# Altium integrated library STM32F767ZIT6.IntLib: 1 symbol
Pins are listed as number, name and electrical type; pins without a type are passive.

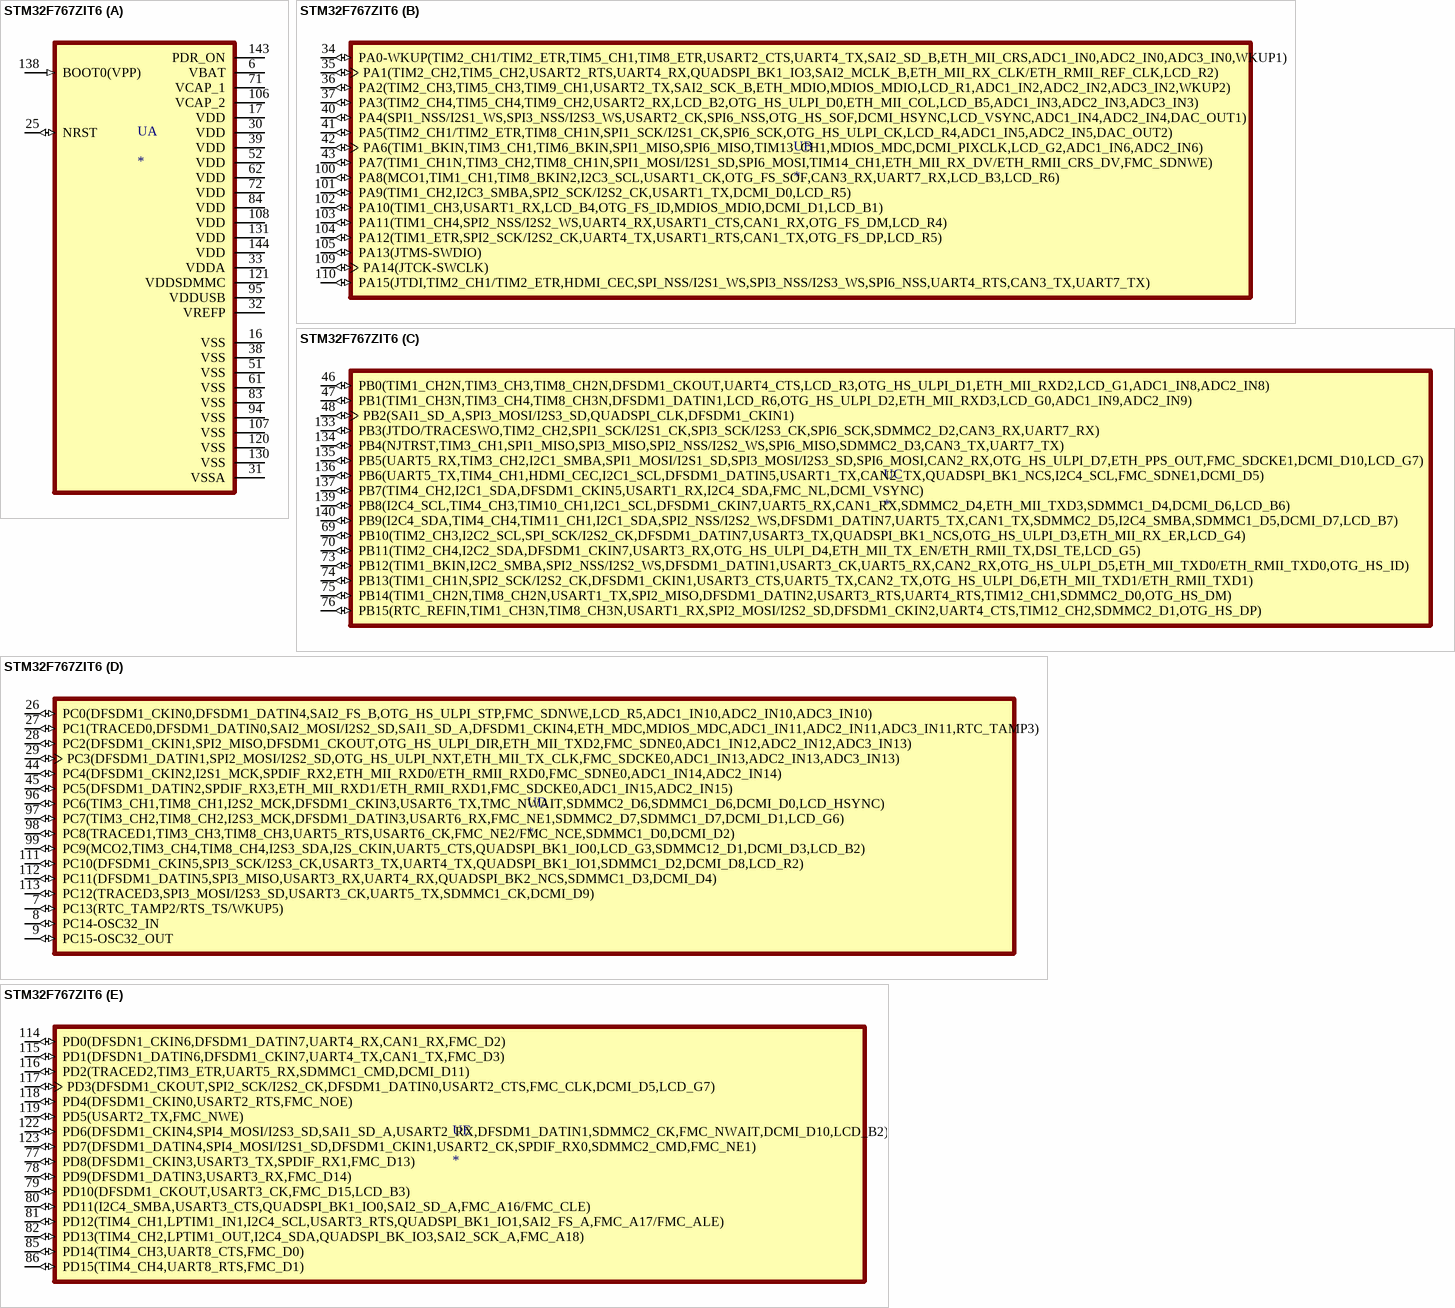
[diagram p0: symbol STM32F767ZIT6]

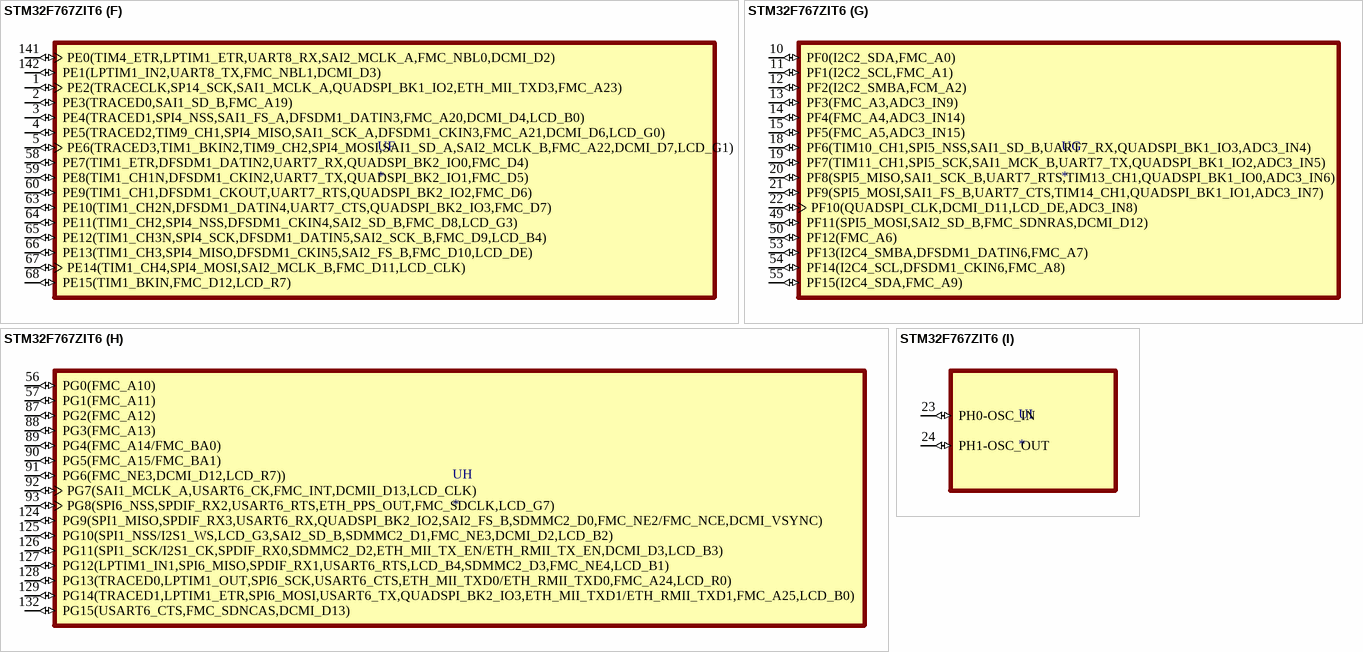
[diagram p1: symbol STM32F767ZIT6]

## STM32F767ZIT6
designator U
ARMÂ® CortexÂ®-M7 STM32F7 Microcontroller IC 32-Bit 216MHz 2MB _2M x 8_ FLASH 144-LQFP _20x20_; MF: STMicroelectronics; MP: STM32F767ZIT6; Value: *; Price: None; Package: LQFP-144 STMicroelectronics; SnapEDA_Link: https://www.snapeda.com/parts/STM32F767ZIT6/STMicroelectronics/view-part/525531/?ref=snap; Availability: Unavailable
footprint QFP50P2200X2200X160-144N
part A pins: 6 VBAT (power), 16 VSS (power), 17 VDD (power), 25 NRST (io), 30 VDD (power), 31 VSSA (power), 32 VREFP (power), 33 VDDA (power), 38 VSS (power), 39 VDD (power), 51 VSS (power), 52 VDD (power), 61 VSS (power), 62 VDD (power), 71 VCAP_1 (power), 72 VDD (power), 83 VSS (power), 84 VDD (power), 94 VSS (power), 95 VDDUSB (power), 106 VCAP_2 (power), 107 VSS (power), 108 VDD (power), 120 VSS (power), 121 VDDSDMMC (power), 130 VSS (power), 131 VDD (power), 138 BOOT0(VPP) (in), 143 PDR_ON (power), 144 VDD (power)
part B pins: 34 PA0-WKUP(TIM2_CH1/TIM2_ETR,TIM5_CH1,TIM8_ETR,USART2_CTS,UART4_TX,SAI2_SD_B,ETH_MII_CRS,ADC1_IN0,ADC2_IN0,ADC3_IN0,WKUP1) (io), 35 PA1(TIM2_CH2,TIM5_CH2,USART2_RTS,UART4_RX,QUADSPI_BK1_IO3,SAI2_MCLK_B,ETH_MII_RX_CLK/ETH_RMII_REF_CLK,LCD_R2) (io), 36 PA2(TIM2_CH3,TIM5_CH3,TIM9_CH1,USART2_TX,SAI2_SCK_B,ETH_MDIO,MDIOS_MDIO,LCD_R1,ADC1_IN2,ADC2_IN2,ADC3_IN2,WKUP2) (io), 37 PA3(TIM2_CH4,TIM5_CH4,TIM9_CH2,USART2_RX,LCD_B2,OTG_HS_ULPI_D0,ETH_MII_COL,LCD_B5,ADC1_IN3,ADC2_IN3,ADC3_IN3) (io), 40 PA4(SPI1_NSS/I2S1_WS,SPI3_NSS/I2S3_WS,USART2_CK,SPI6_NSS,OTG_HS_SOF,DCMI_HSYNC,LCD_VSYNC,ADC1_IN4,ADC2_IN4,DAC_OUT1) (io), 41 PA5(TIM2_CH1/TIM2_ETR,TIM8_CH1N,SPI1_SCK/I2S1_CK,SPI6_SCK,OTG_HS_ULPI_CK,LCD_R4,ADC1_IN5,ADC2_IN5,DAC_OUT2) (io), 42 PA6(TIM1_BKIN,TIM3_CH1,TIM6_BKIN,SPI1_MISO,SPI6_MISO,TIM13_CH1,MDIOS_MDC,DCMI_PIXCLK,LCD_G2,ADC1_IN6,ADC2_IN6) (io), 43 PA7(TIM1_CH1N,TIM3_CH2,TIM8_CH1N,SPI1_MOSI/I2S1_SD,SPI6_MOSI,TIM14_CH1,ETH_MII_RX_DV/ETH_RMII_CRS_DV,FMC_SDNWE) (io), 100 PA8(MCO1,TIM1_CH1,TIM8_BKIN2,I2C3_SCL,USART1_CK,OTG_FS_SOF,CAN3_RX,UART7_RX,LCD_B3,LCD_R6) (io), 101 PA9(TIM1_CH2,I2C3_SMBA,SPI2_SCK/I2S2_CK,USART1_TX,DCMI_D0,LCD_R5) (io), 102 PA10(TIM1_CH3,USART1_RX,LCD_B4,OTG_FS_ID,MDIOS_MDIO,DCMI_D1,LCD_B1) (io), 103 PA11(TIM1_CH4,SPI2_NSS/I2S2_WS,UART4_RX,USART1_CTS,CAN1_RX,OTG_FS_DM,LCD_R4) (io), 104 PA12(TIM1_ETR,SPI2_SCK/I2S2_CK,UART4_TX,USART1_RTS,CAN1_TX,OTG_FS_DP,LCD_R5) (io), 105 PA13(JTMS-SWDIO) (io), 109 PA14(JTCK-SWCLK) (io), 110 PA15(JTDI,TIM2_CH1/TIM2_ETR,HDMI_CEC,SPI_NSS/I2S1_WS,SPI3_NSS/I2S3_WS,SPI6_NSS,UART4_RTS,CAN3_TX,UART7_TX) (io)
part C pins: 46 PB0(TIM1_CH2N,TIM3_CH3,TIM8_CH2N,DFSDM1_CKOUT,UART4_CTS,LCD_R3,OTG_HS_ULPI_D1,ETH_MII_RXD2,LCD_G1,ADC1_IN8,ADC2_IN8) (io), 47 PB1(TIM1_CH3N,TIM3_CH4,TIM8_CH3N,DFSDM1_DATIN1,LCD_R6,OTG_HS_ULPI_D2,ETH_MII_RXD3,LCD_G0,ADC1_IN9,ADC2_IN9) (io), 48 PB2(SAI1_SD_A,SPI3_MOSI/I2S3_SD,QUADSPI_CLK,DFSDM1_CKIN1) (io), 69 PB10(TIM2_CH3,I2C2_SCL,SPI_SCK/I2S2_CK,DFSDM1_DATIN7,USART3_TX,QUADSPI_BK1_NCS,OTG_HS_ULPI_D3,ETH_MII_RX_ER,LCD_G4) (io), 70 PB11(TIM2_CH4,I2C2_SDA,DFSDM1_CKIN7,USART3_RX,OTG_HS_ULPI_D4,ETH_MII_TX_EN/ETH_RMII_TX,DSI_TE,LCD_G5) (io), 73 PB12(TIM1_BKIN,I2C2_SMBA,SPI2_NSS/I2S2_WS,DFSDM1_DATIN1,USART3_CK,UART5_RX,CAN2_RX,OTG_HS_ULPI_D5,ETH_MII_TXD0/ETH_RMII_TXD0,OTG_HS_ID) (io), 74 PB13(TIM1_CH1N,SPI2_SCK/I2S2_CK,DFSDM1_CKIN1,USART3_CTS,UART5_TX,CAN2_TX,OTG_HS_ULPI_D6,ETH_MII_TXD1/ETH_RMII_TXD1) (io), 75 PB14(TIM1_CH2N,TIM8_CH2N,USART1_TX,SPI2_MISO,DFSDM1_DATIN2,USART3_RTS,UART4_RTS,TIM12_CH1,SDMMC2_D0,OTG_HS_DM) (io), 76 PB15(RTC_REFIN,TIM1_CH3N,TIM8_CH3N,USART1_RX,SPI2_MOSI/I2S2_SD,DFSDM1_CKIN2,UART4_CTS,TIM12_CH2,SDMMC2_D1,OTG_HS_DP) (io), 133 PB3(JTDO/TRACESWO,TIM2_CH2,SPI1_SCK/I2S1_CK,SPI3_SCK/I2S3_CK,SPI6_SCK,SDMMC2_D2,CAN3_RX,UART7_RX) (io), 134 PB4(NJTRST,TIM3_CH1,SPI1_MISO,SPI3_MISO,SPI2_NSS/I2S2_WS,SPI6_MISO,SDMMC2_D3,CAN3_TX,UART7_TX) (io), 135 PB5(UART5_RX,TIM3_CH2,I2C1_SMBA,SPI1_MOSI/I2S1_SD,SPI3_MOSI/I2S3_SD,SPI6_MOSI,CAN2_RX,OTG_HS_ULPI_D7,ETH_PPS_OUT,FMC_SDCKE1,DCMI_D10,LCD_G7) (io), 136 PB6(UART5_TX,TIM4_CH1,HDMI_CEC,I2C1_SCL,DFSDM1_DATIN5,USART1_TX,CAN2_TX,QUADSPI_BK1_NCS,I2C4_SCL,FMC_SDNE1,DCMI_D5) (io), 137 PB7(TIM4_CH2,I2C1_SDA,DFSDM1_CKIN5,USART1_RX,I2C4_SDA,FMC_NL,DCMI_VSYNC) (io), 139 PB8(I2C4_SCL,TIM4_CH3,TIM10_CH1,I2C1_SCL,DFSDM1_CKIN7,UART5_RX,CAN1_RX,SDMMC2_D4,ETH_MII_TXD3,SDMMC1_D4,DCMI_D6,LCD_B6) (io), 140 PB9(I2C4_SDA,TIM4_CH4,TIM11_CH1,I2C1_SDA,SPI2_NSS/I2S2_WS,DFSDM1_DATIN7,UART5_TX,CAN1_TX,SDMMC2_D5,I2C4_SMBA,SDMMC1_D5,DCMI_D7,LCD_B7) (io)
part D pins: 7 PC13(RTC_TAMP2/RTS_TS/WKUP5) (io), 8 PC14-OSC32_IN (io), 9 PC15-OSC32_OUT (io), 26 PC0(DFSDM1_CKIN0,DFSDM1_DATIN4,SAI2_FS_B,OTG_HS_ULPI_STP,FMC_SDNWE,LCD_R5,ADC1_IN10,ADC2_IN10,ADC3_IN10) (io), 27 PC1(TRACED0,DFSDM1_DATIN0,SAI2_MOSI/I2S2_SD,SAI1_SD_A,DFSDM1_CKIN4,ETH_MDC,MDIOS_MDC,ADC1_IN11,ADC2_IN11,ADC3_IN11,RTC_TAMP3) (io), 28 PC2(DFSDM1_CKIN1,SPI2_MISO,DFSDM1_CKOUT,OTG_HS_ULPI_DIR,ETH_MII_TXD2,FMC_SDNE0,ADC1_IN12,ADC2_IN12,ADC3_IN13) (io), 29 PC3(DFSDM1_DATIN1,SPI2_MOSI/I2S2_SD,OTG_HS_ULPI_NXT,ETH_MII_TX_CLK,FMC_SDCKE0,ADC1_IN13,ADC2_IN13,ADC3_IN13) (io), 44 PC4(DFSDM1_CKIN2,I2S1_MCK,SPDIF_RX2,ETH_MII_RXD0/ETH_RMII_RXD0,FMC_SDNE0,ADC1_IN14,ADC2_IN14) (io), 45 PC5(DFSDM1_DATIN2,SPDIF_RX3,ETH_MII_RXD1/ETH_RMII_RXD1,FMC_SDCKE0,ADC1_IN15,ADC2_IN15) (io), 96 PC6(TIM3_CH1,TIM8_CH1,I2S2_MCK,DFSDM1_CKIN3,USART6_TX,TMC_NWAIT,SDMMC2_D6,SDMMC1_D6,DCMI_D0,LCD_HSYNC) (io), 97 PC7(TIM3_CH2,TIM8_CH2,I2S3_MCK,DFSDM1_DATIN3,USART6_RX,FMC_NE1,SDMMC2_D7,SDMMC1_D7,DCMI_D1,LCD_G6) (io), 98 PC8(TRACED1,TIM3_CH3,TIM8_CH3,UART5_RTS,USART6_CK,FMC_NE2/FMC_NCE,SDMMC1_D0,DCMI_D2) (io), 99 PC9(MCO2,TIM3_CH4,TIM8_CH4,I2S3_SDA,I2S_CKIN,UART5_CTS,QUADSPI_BK1_IO0,LCD_G3,SDMMC12_D1,DCMI_D3,LCD_B2) (io), 111 PC10(DFSDM1_CKIN5,SPI3_SCK/I2S3_CK,USART3_TX,UART4_TX,QUADSPI_BK1_IO1,SDMMC1_D2,DCMI_D8,LCD_R2) (io), 112 PC11(DFSDM1_DATIN5,SPI3_MISO,USART3_RX,UART4_RX,QUADSPI_BK2_NCS,SDMMC1_D3,DCMI_D4) (io), 113 PC12(TRACED3,SPI3_MOSI/I2S3_SD,USART3_CK,UART5_TX,SDMMC1_CK,DCMI_D9) (io)
part E pins: 77 PD8(DFSDM1_CKIN3,USART3_TX,SPDIF_RX1,FMC_D13) (io), 78 PD9(DFSDM1_DATIN3,USART3_RX,FMC_D14) (io), 79 PD10(DFSDM1_CKOUT,USART3_CK,FMC_D15,LCD_B3) (io), 80 PD11(I2C4_SMBA,USART3_CTS,QUADSPI_BK1_IO0,SAI2_SD_A,FMC_A16/FMC_CLE) (io), 81 PD12(TIM4_CH1,LPTIM1_IN1,I2C4_SCL,USART3_RTS,QUADSPI_BK1_IO1,SAI2_FS_A,FMC_A17/FMC_ALE) (io), 82 PD13(TIM4_CH2,LPTIM1_OUT,I2C4_SDA,QUADSPI_BK_IO3,SAI2_SCK_A,FMC_A18) (io), 85 PD14(TIM4_CH3,UART8_CTS,FMC_D0) (io), 86 PD15(TIM4_CH4,UART8_RTS,FMC_D1) (io), 114 PD0(DFSDN1_CKIN6,DFSDM1_DATIN7,UART4_RX,CAN1_RX,FMC_D2) (io), 115 PD1(DFSDN1_DATIN6,DFSDM1_CKIN7,UART4_TX,CAN1_TX,FMC_D3) (io), 116 PD2(TRACED2,TIM3_ETR,UART5_RX,SDMMC1_CMD,DCMI_D11) (io), 117 PD3(DFSDM1_CKOUT,SPI2_SCK/I2S2_CK,DFSDM1_DATIN0,USART2_CTS,FMC_CLK,DCMI_D5,LCD_G7) (io), 118 PD4(DFSDM1_CKIN0,USART2_RTS,FMC_NOE) (io), 119 PD5(USART2_TX,FMC_NWE) (io), 122 PD6(DFSDM1_CKIN4,SPI4_MOSI/I2S3_SD,SAI1_SD_A,USART2_RX,DFSDM1_DATIN1,SDMMC2_CK,FMC_NWAIT,DCMI_D10,LCD_B2) (io), 123 PD7(DFSDM1_DATIN4,SPI4_MOSI/I2S1_SD,DFSDM1_CKIN1,USART2_CK,SPDIF_RX0,SDMMC2_CMD,FMC_NE1) (io)
part F pins: 1 PE2(TRACECLK,SP14_SCK,SAI1_MCLK_A,QUADSPI_BK1_IO2,ETH_MII_TXD3,FMC_A23) (io), 2 PE3(TRACED0,SAI1_SD_B,FMC_A19) (io), 3 PE4(TRACED1,SPI4_NSS,SAI1_FS_A,DFSDM1_DATIN3,FMC_A20,DCMI_D4,LCD_B0) (io), 4 PE5(TRACED2,TIM9_CH1,SPI4_MISO,SAI1_SCK_A,DFSDM1_CKIN3,FMC_A21,DCMI_D6,LCD_G0) (io), 5 PE6(TRACED3,TIM1_BKIN2,TIM9_CH2,SPI4_MOSI,SAI1_SD_A,SAI2_MCLK_B,FMC_A22,DCMI_D7,LCD_G1) (io), 58 PE7(TIM1_ETR,DFSDM1_DATIN2,UART7_RX,QUADSPI_BK2_IO0,FMC_D4) (io), 59 PE8(TIM1_CH1N,DFSDM1_CKIN2,UART7_TX,QUADSPI_BK2_IO1,FMC_D5) (io), 60 PE9(TIM1_CH1,DFSDM1_CKOUT,UART7_RTS,QUADSPI_BK2_IO2,FMC_D6) (io), 63 PE10(TIM1_CH2N,DFSDM1_DATIN4,UART7_CTS,QUADSPI_BK2_IO3,FMC_D7) (io), 64 PE11(TIM1_CH2,SPI4_NSS,DFSDM1_CKIN4,SAI2_SD_B,FMC_D8,LCD_G3) (io), 65 PE12(TIM1_CH3N,SPI4_SCK,DFSDM1_DATIN5,SAI2_SCK_B,FMC_D9,LCD_B4) (io), 66 PE13(TIM1_CH3,SPI4_MISO,DFSDM1_CKIN5,SAI2_FS_B,FMC_D10,LCD_DE) (io), 67 PE14(TIM1_CH4,SPI4_MOSI,SAI2_MCLK_B,FMC_D11,LCD_CLK) (io), 68 PE15(TIM1_BKIN,FMC_D12,LCD_R7) (io), 141 PE0(TIM4_ETR,LPTIM1_ETR,UART8_RX,SAI2_MCLK_A,FMC_NBL0,DCMI_D2) (io), 142 PE1(LPTIM1_IN2,UART8_TX,FMC_NBL1,DCMI_D3) (io)
part G pins: 10 PF0(I2C2_SDA,FMC_A0) (io), 11 PF1(I2C2_SCL,FMC_A1) (io), 12 PF2(I2C2_SMBA,FCM_A2) (io), 13 PF3(FMC_A3,ADC3_IN9) (io), 14 PF4(FMC_A4,ADC3_IN14) (io), 15 PF5(FMC_A5,ADC3_IN15) (io), 18 PF6(TIM10_CH1,SPI5_NSS,SAI1_SD_B,UART7_RX,QUADSPI_BK1_IO3,ADC3_IN4) (io), 19 PF7(TIM11_CH1,SPI5_SCK,SAI1_MCK_B,UART7_TX,QUADSPI_BK1_IO2,ADC3_IN5) (io), 20 PF8(SPI5_MISO,SAI1_SCK_B,UART7_RTS,TIM13_CH1,QUADSPI_BK1_IO0,ADC3_IN6) (io), 21 PF9(SPI5_MOSI,SAI1_FS_B,UART7_CTS,TIM14_CH1,QUADSPI_BK1_IO1,ADC3_IN7) (io), 22 PF10(QUADSPI_CLK,DCMI_D11,LCD_DE,ADC3_IN8) (io), 49 PF11(SPI5_MOSI,SAI2_SD_B,FMC_SDNRAS,DCMI_D12) (io), 50 PF12(FMC_A6) (io), 53 PF13(I2C4_SMBA,DFSDM1_DATIN6,FMC_A7) (io), 54 PF14(I2C4_SCL,DFSDM1_CKIN6,FMC_A8) (io), 55 PF15(I2C4_SDA,FMC_A9) (io)
part H pins: 56 PG0(FMC_A10) (io), 57 PG1(FMC_A11) (io), 87 PG2(FMC_A12) (io), 88 PG3(FMC_A13) (io), 89 PG4(FMC_A14/FMC_BA0) (io), 90 PG5(FMC_A15/FMC_BA1) (io), 91 PG6(FMC_NE3,DCMI_D12,LCD_R7)) (io), 92 PG7(SAI1_MCLK_A,USART6_CK,FMC_INT,DCMII_D13,LCD_CLK) (io), 93 PG8(SPI6_NSS,SPDIF_RX2,USART6_RTS,ETH_PPS_OUT,FMC_SDCLK,LCD_G7) (io), 124 PG9(SPI1_MISO,SPDIF_RX3,USART6_RX,QUADSPI_BK2_IO2,SAI2_FS_B,SDMMC2_D0,FMC_NE2/FMC_NCE,DCMI_VSYNC) (io), 125 PG10(SPI1_NSS/I2S1_WS,LCD_G3,SAI2_SD_B,SDMMC2_D1,FMC_NE3,DCMI_D2,LCD_B2) (io), 126 PG11(SPI1_SCK/I2S1_CK,SPDIF_RX0,SDMMC2_D2,ETH_MII_TX_EN/ETH_RMII_TX_EN,DCMI_D3,LCD_B3) (io), 127 PG12(LPTIM1_IN1,SPI6_MISO,SPDIF_RX1,USART6_RTS,LCD_B4,SDMMC2_D3,FMC_NE4,LCD_B1) (io), 128 PG13(TRACED0,LPTIM1_OUT,SPI6_SCK,USART6_CTS,ETH_MII_TXD0/ETH_RMII_TXD0,FMC_A24,LCD_R0) (io), 129 PG14(TRACED1,LPTIM1_ETR,SPI6_MOSI,USART6_TX,QUADSPI_BK2_IO3,ETH_MII_TXD1/ETH_RMII_TXD1,FMC_A25,LCD_B0) (io), 132 PG15(USART6_CTS,FMC_SDNCAS,DCMI_D13) (io)
part I pins: 23 PH0-OSC_IN (io), 24 PH1-OSC_OUT (io)